# Altium footprint library 电源芯片.PcbLib: 17 footprints (part 2 of 2)
Each footprint in its own frame and in the unit in brackets; x right, y up, seen from the top. Pads: shape width x height; smd on the part's side, far side on the other; paste and mask are expansions set on the pad; w line width, h text height; cw(c..) or ccw(c..) is an arc to the next point about the centre after c.
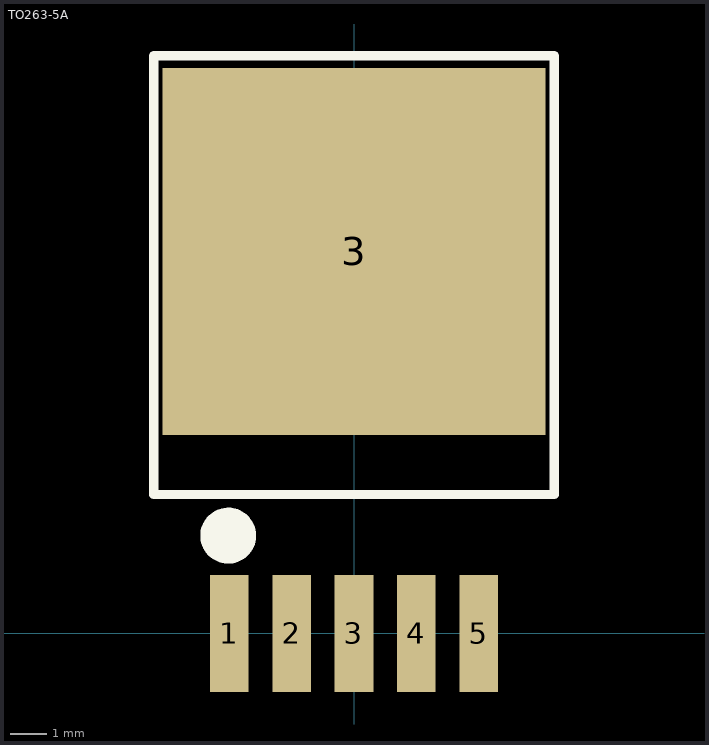
[diagram p1: the footprint, top view; thin cyan lines are the x and y axes]

## TO263-5A [mm] "263，5脚晶体管"
pads (6):
  rect 1.05x3.2 smd: 1(-3.4,0) 2(-1.7,0) 3(0,0) 4(1.7,0) 5(3.4,0)
  rect 10.45x10 smd: 3(0,10.414)
Top Overlay:
  circle w0.762: c-3.429,2.667 r0.381
  lines w0.254: -5.461,3.787 5.461,3.787 5.461,6.037 5.461,15.748 -5.461,15.748 -5.461,6.037 -5.461,3.787
3D body "6.STEP": height 4.5, standoff 0, extent -5.047,0.448 4.953,13.776